# EAGLE library part CD74HC4052PWR (library FSAE Electric (Alexander Ray's conflicted copy 2016-04-02))
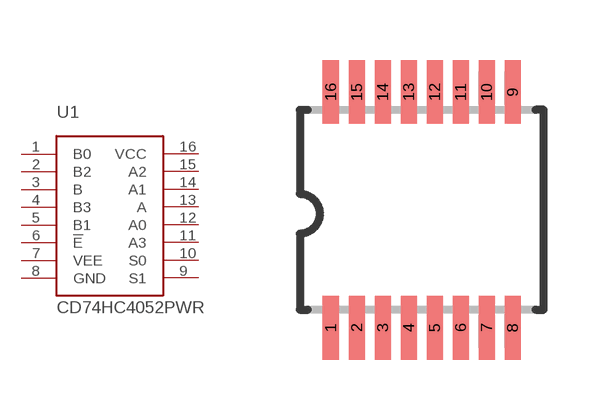
[diagram p69: symbol with the pads of TSSOP-16; footprint TSSOP-16]

Designator prefix U1

## CD74HC4052PWR (PARTNO: CD74HC4052PWR)  [TSSOP-16]
1  B0
2  B2
3  B
4  B3
5  B1
6  !E
7  VEE
8  GND
9  S1
10  S0
11  A3
12  A0
13  A
14  A1
15  A2
16  VCC

## Footprint TSSOP-16 (pad centres in mm)
smd 0.4 x 1.6: 1 -2.225,-2.85; 2 -1.575,-2.85; 3 -0.925,-2.85; 4 -0.275,-2.85; 5 0.375,-2.85; 6 1.025,-2.85; 7 1.675,-2.85; 8 2.325,-2.85; 9 2.325,3.05; 10 1.675,3.05; 11 1.025,3.05; 12 0.375,3.05; 13 -0.275,3.05; 14 -0.925,3.05; 15 -1.575,3.05; 16 -2.225,3.05